# Altium footprint library 无刷驱动-CYT2BL3-FD6288-FOC-LiteDual.PcbLib: 21 footprints (part 2 of 2)
Each footprint in its own frame and in the unit in brackets; x right, y up, seen from the top. Pads: shape width x height; smd on the part's side, far side on the other; paste and mask are expansions set on the pad; w line width, h text height; cw(c..) or ccw(c..) is an arc to the next point about the centre after c.
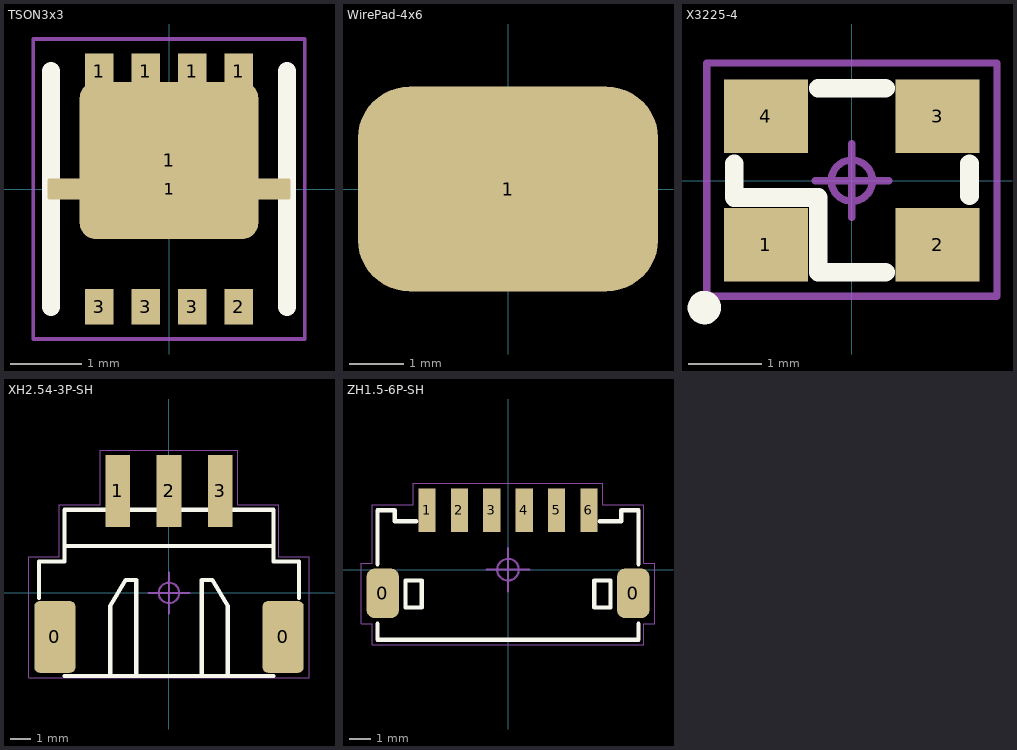
[diagram p1: the footprints below, top view; thin cyan lines are the x and y axes]

## TSON3x3 [mm]
height 1.6
pads (10):
  rect 0.4x0.5 smd: 1(-0.975,1.65) 1(-0.325,1.65) 1(0.325,1.65) 1(0.975,1.65) 2(0.975,-1.65) 3(-0.975,-1.65) 3(-0.325,-1.65) 3(0.325,-1.65)
  rrect20% 3.4x0.3 smd: 1(0,0)
  rrect20% 2.5x2.2 smd: 1(0,0.4)
Top Overlay:
  lines w0.254: -1.65,-1.65 -1.65,1.65 ; 1.65,-1.65 1.65,1.65
Top Designator:
  text ".Designator" at -1.961,-0.196 h1
Top Component Outline:
  lines w0.05: -1.9,-2.1 -1.9,2.1 1.9,2.1 1.9,-2.1 -1.9,-2.1
Top Component Center:
  circle w0.025: c0,0 r0.225
  lines w0.025: -0.45,0 0.45,0 ; 0,-0.45 0,0.45
3D body: height 0.17, standoff 0, extent -1.125,-1.65 -0.825,-1.55
3D body: height 0.17, standoff 0, extent -0.475,-1.65 -0.175,-1.55
3D body: height 0.17, standoff 0, extent -1.125,1.55 -0.825,1.65
3D body: height 0.17, standoff 0, extent -0.475,1.55 -0.175,1.65
3D body: height 0.17, standoff 0, extent 0.175,-1.65 0.475,-1.55
3D body: height 0.17, standoff 0, extent 0.825,-1.65 1.125,-1.55
3D body: height 0.17, standoff 0, extent 0.175,1.55 0.475,1.65
3D body: height 0.17, standoff 0, extent 0.825,1.55 1.125,1.65
3D body: height 0.17, standoff 0, extent -1.25,-0.7 1.25,1.55
3D body: height 0.17, standoff 0, extent -1.662,-0.125 1.663,0.125
3D body: height 0.85, standoff 0, extent -1.55,-1.55 1.55,1.55

## WirePad-4x6 [mm] "焊线盘 表贴 4.5mm x 7mm"
height 1.6
pads (1):
  rrect50% 5.5x3.75 smd paste+0 mask+0.05: 1(0,0)
Top Designator:
  text ".Designator" at -1.961,-0.196 h1
Top Component Center:
  circle w0.1: c0,0 r0.5
  lines w0.1: -1,0 1,0 ; 0,-1 0,1

## X3225-4 [mil] "3225 4脚 晶振"
height 62.99
pads (4):
  rect 45x39.37 smd: 1(-46,-34.4) 2(46,-34.41) 3(46,34.41) 4(-46,34.41)
Top Overlay:
  circle w10: c-79,-68 r3.94
  lines w10: -63,9 -63,-9 -18,-9 -18,-49 18,-49 ; -18,49.43 18,49.43 ; 63,-8 63,9
Top Designator:
  text ".Designator" at -81.33,-13.7 h39.37
Top Component Outline:
  lines w3.94: -77.76,-62 -77.76,63 77.76,63 77.76,-62 -77.76,-62
Top Component Center:
  circle w3.94: c0,0 r11.02
  lines w3.94: -19.69,0 19.68,0 ; 0,-19.68 0,19.69
3D body "XTAL-3225-4.step": height 24.02, standoff 0, extent -62.99,-48.99 63,49.43

## XH2.54-3P-SH [mm] "XH2.54-3P 贴片 卧式"
pads (5):
  rrect25% 2x3.5 smd: 0(-5.577,-2.15) 0(5.577,-2.15)
  rect 1.2x3.5 smd: 1(-2.5,4.981) 2(0,4.981) 3(2.5,4.981)
Top Overlay:
  lines w0.2: -6.35,-0.254 -6.35,1.536 -5.1,1.536 -5.1,4.064 5.1,4.064 5.1,1.536 6.35,1.536 6.35,-0.254 ; -5.1,-4.064 5.1,-4.064 ; -5.1,2.286 5.1,2.286 ; -2.87,-4.064 -2.87,-0.634 -2.108,0.636 -1.6,0.636 -1.6,-4.064 ; 1.6,-4.064 1.6,0.636 2.108,0.636 2.87,-0.634 2.87,-4.064
Top Designator:
  text ".Designator" at -2.25,1.124 h1
Top Component Outline:
  lines w0.05: -6.85,-4.15 -6.85,1.775 -5.35,1.775 -5.35,4.3 -3.35,4.3 -3.35,6.975 3.35,6.975 3.35,4.3 5.35,4.3 5.35,1.775 6.85,1.775 6.85,-4.15 -6.85,-4.15
Top Component Center:
  circle w0.1: c0,0 r0.5
  lines w0.1: -1,0 1,0 ; 0,-1 0,1
3D body "XH2.54-WS-3P.STEP": height 6.05, standoff -0.01, extent -6.25,-4 6.25,6.418

## ZH1.5-6P-SH [mm] "ZH1.5-6P 贴片 卧式"
height 1.6
pads (8):
  rrect50% 1.5x2.3 smd: 0(-5.8,-1.1) 0(5.8,-1.1)
  rect 0.8x2 smd: 1(-3.75,2.75) 2(-2.25,2.75) 3(-0.75,2.75) 4(0.75,2.75) 5(2.25,2.75) 6(3.75,2.75)
Top Overlay:
  lines w0.2: -6.05,-2.5 -6.05,-3.25 6.05,-3.25 6.05,-2.5 ; -6.05,0.25 -6.05,2.75 -5.25,2.75 -5.25,2.25 -4.25,2.25 ; 4.25,2.25 5.25,2.25 5.25,2.75 6.05,2.75 6.05,0.25 ; -4.75,-1.75 -4,-1.75 -4,-0.5 -4.75,-0.5 -4.75,-1.75 ; 4,-1.75 4.75,-1.75 4.75,-0.5 4,-0.5 4,-1.75
Top Designator:
  text ".Designator" at -1.961,-0.196 h1
Top Component Outline:
  lines w0.05: -6.8,-2.5 -6.29,-2.5 -6.29,-3.475 6.29,-3.475 6.29,-2.5 6.8,-2.5 6.8,0.3 6.29,0.3 6.29,0.403 6.29,3 4.4,3 4.4,4 -4.4,4 -4.4,3 -6.29,3 -6.29,0.403 -6.29,0.3 -6.8,0.3 -6.8,-2.5
Top Component Center:
  circle w0.1: c0,0 r0.5
  lines w0.1: -1,0 1,0 ; 0,-1 0,1
3D body "User Library-A1501WR-S-XP-6P.step": height 3.9, standoff -0.01, extent -6.29,-3.25 6.29,3.459